# EAGLE library part NCV7342MW3R2G (library Driver_Transceiver ICs)
IC TRANSCEIVER 1/1 8DFN Manufacturer's datasheet <https://www.onsemi.jp/PowerSolutions/document/NCV7342-D.PDF>
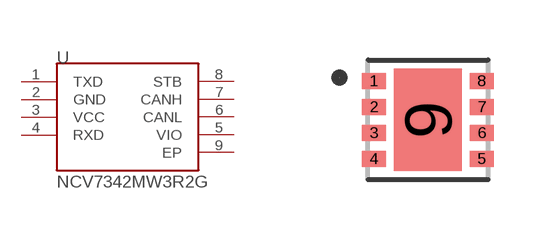
[diagram p3: symbol with the pads of DFN-8; footprint DFN-8]

Designator prefix U

## NCV7342MW3R2G (CREATED_BY: PCBLayout.com; DIGIKEY_PN: NCV7342MW3R2GOSTR-ND; MANUFACTURER: ON Semiconductor; MPN: NCV7342MW3R2G; PACKAGE: DFN-8)  [DFN-8]
1  TXD  in
2  GND  pwr
3  VCC  pwr
4  RXD  out
5  VIO  pwr
6  CANL
7  CANH
8  STB  in
9  EP  pwr

## Footprint DFN-8 (pad centres in mm)
smd 0.6 x 0.4: 1 -1.35,0.975; 2 -1.35,0.325; 3 -1.35,-0.325; 4 -1.35,-0.975; 5 1.35,-0.975; 6 1.35,-0.325; 7 1.35,0.325; 8 1.35,0.975
smd 1.7 x 2.56: 9 0,0